# EAGLE library part ADC_MCP3208 (library aoba)
MicroChip 12bit 8ch A/D converter
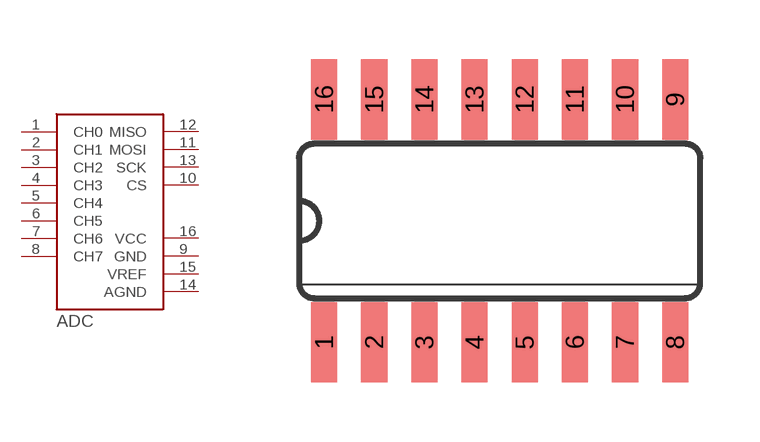
[diagram p8: symbol with the pads of SO16; footprint SO16]

Designator prefix ADC

## ADC_MCP3208  [SO16]
1  CH0
2  CH1
3  CH2
4  CH3
5  CH4
6  CH5
7  CH6
8  CH7
9  GND  pwr
10  CS
11  MOSI
12  MISO
13  SCK
14  AGND  pwr
15  VREF  pwr
16  VCC  pwr

## Footprint SO16 (pad centres in mm)
Small Outline package 150 mil
smd 0.66 x 2.032: 1 -4.445,-3.073; 2 -3.175,-3.073; 3 -1.905,-3.073; 4 -0.635,-3.073; 5 0.635,-3.073; 6 1.905,-3.073; 7 3.175,-3.073; 8 4.445,-3.073; 9 4.445,3.073; 10 3.175,3.073; 11 1.905,3.073; 12 0.635,3.073; 13 -0.635,3.073; 14 -1.905,3.073; 15 -3.175,3.073; 16 -4.445,3.073